# EAGLE library part SI8600 (library TinkerMill)
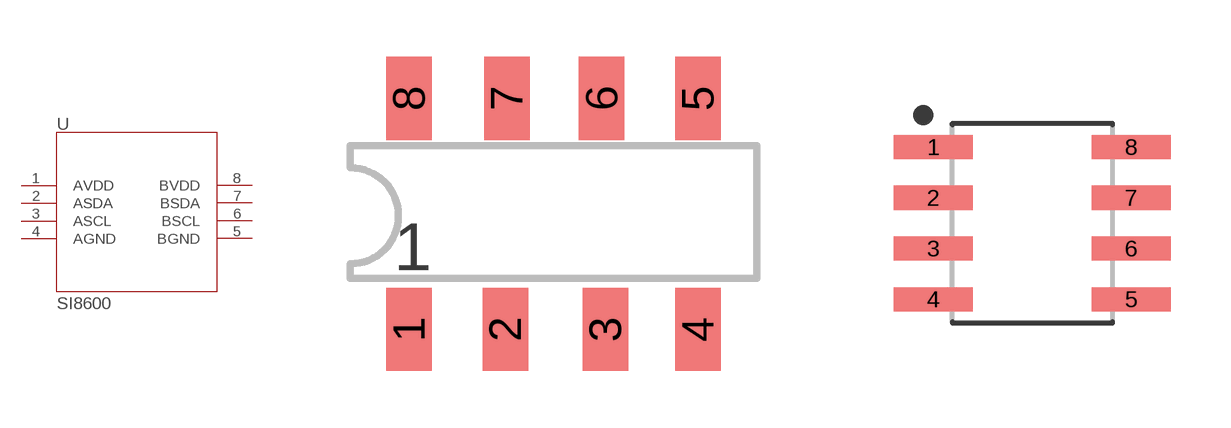
[diagram p0: symbol with the pads of SM-08; footprints SM-08, SOIC127P600X175-8]

Designator prefix U

## SI8600  [SM-08]
1  AVDD
2  ASDA
3  ASCL
4  AGND
5  BGND
6  BSCL
7  BSDA
8  BVDD

## SI8600SO-8  [SOIC127P600X175-8]
Pads as for SM-08

## Footprint SM-08 (pad centres in mm)
SMD SM-08 SMD package'
smd 1.2 x 2.2: 1 -3.81,-3; 2 -1.27,-3; 3 1.37,-3; 4 3.81,-3; 5 3.81,3.1; 6 1.27,3.1; 7 -1.23,3.1; 8 -3.81,3.1

## Footprint SOIC127P600X175-8 (pad centres in mm)
8-SOIC, 1.27 mm pitch, 6.00 mm span, 4.90 X 3.90 X 1.75 mm body 8-pin SOIC package with 1.27 mm pitch, 6.00 mm span with body size 4.90 X 3.90 X 1.75 mm
smd 1.968 x 0.602: 1 -2.473,1.905; 2 -2.473,0.635; 3 -2.473,-0.635; 4 -2.473,-1.905; 5 2.473,-1.905; 6 2.473,-0.635; 7 2.473,0.635; 8 2.473,1.905